# Altium schematic symbol library User.SchLib: 226 symbols (part 2 of 2)
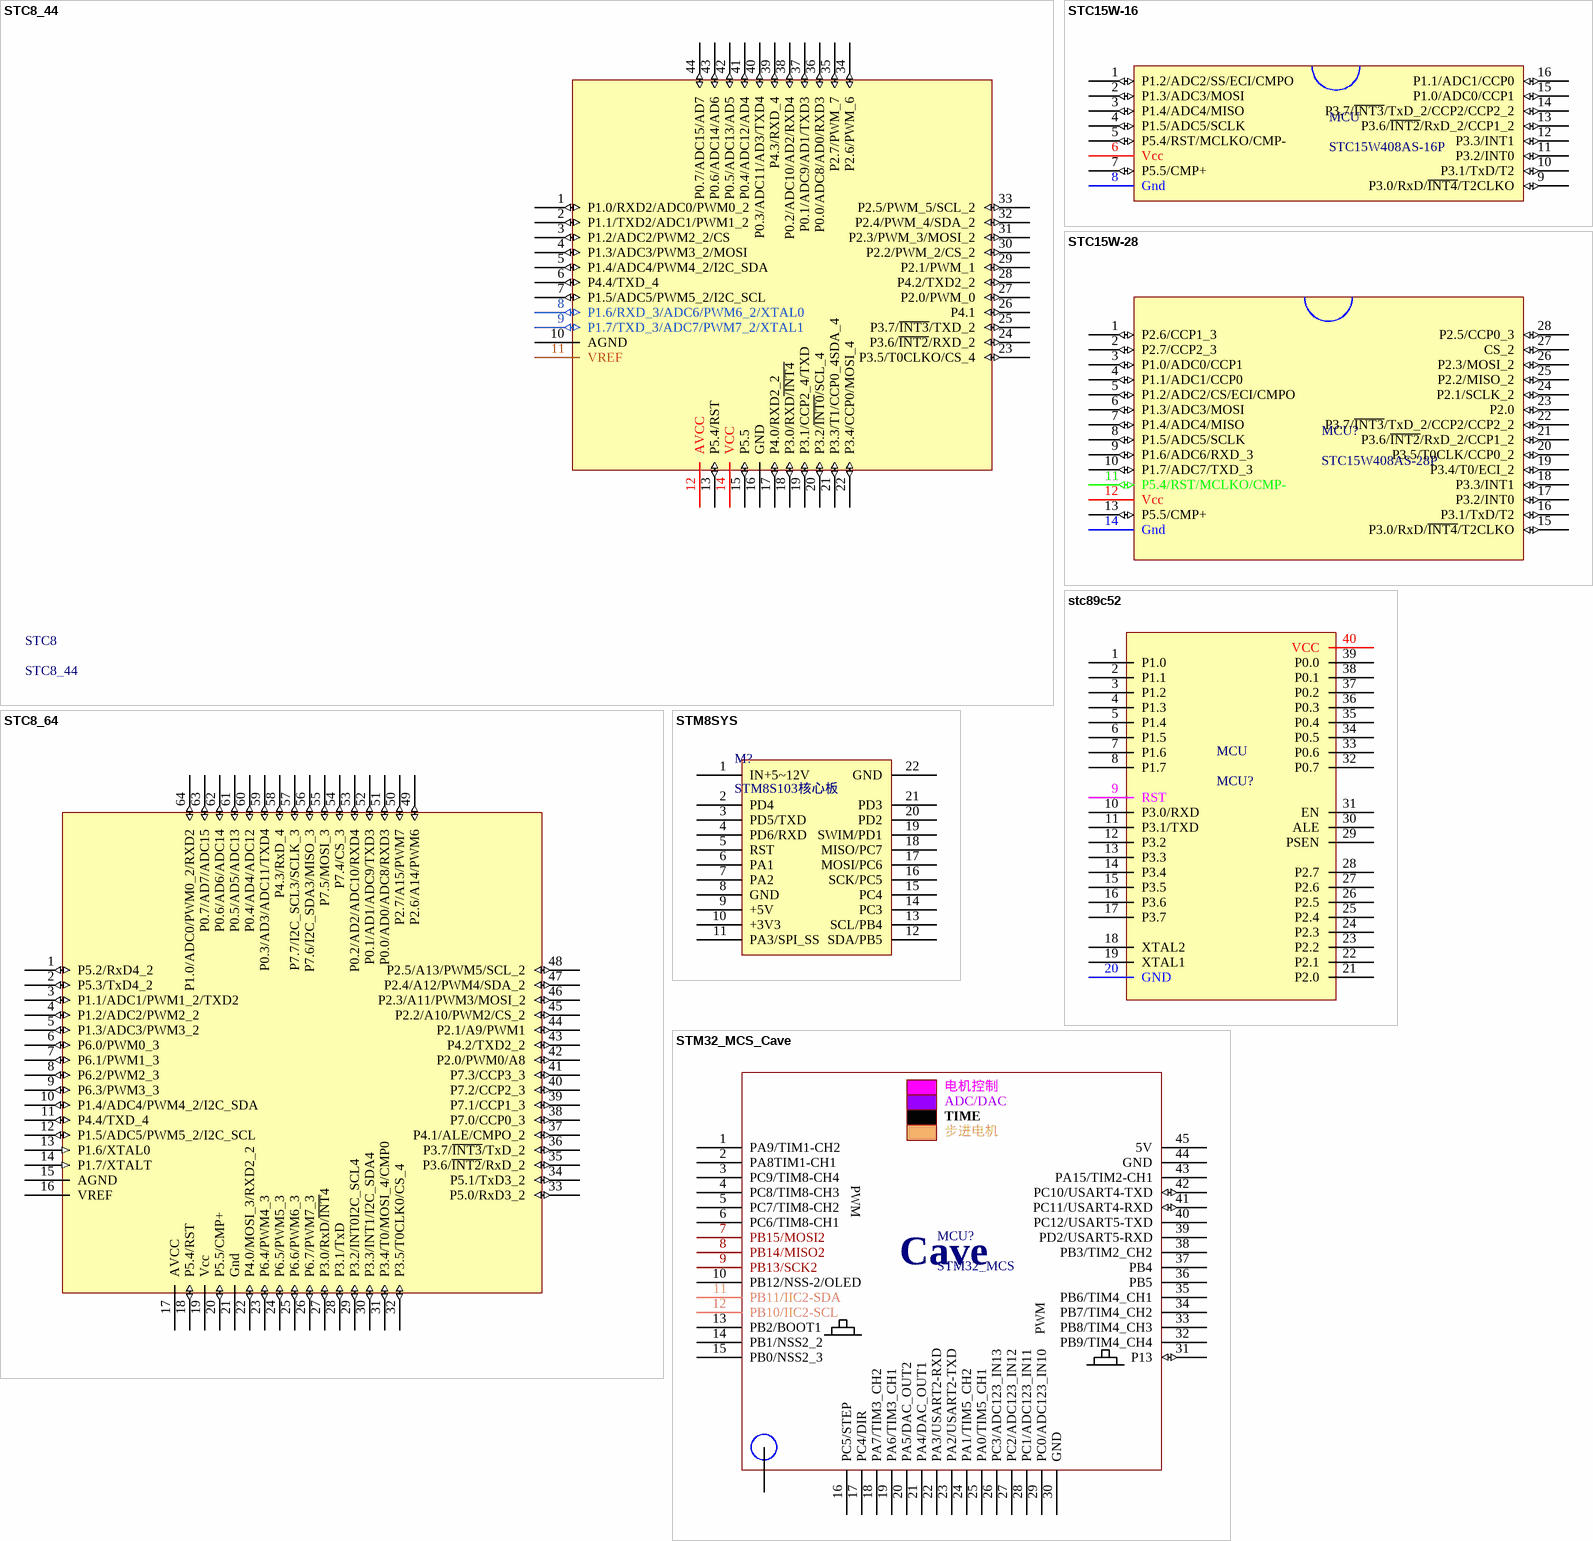
[diagram p10: symbols STC8_44 to STM32_MCS_Cave]

## stc89c52
designator MCU, comment MCU?
MCU
footprint DIP_40 (15.24)
pins: 1 P1.0, 2 P1.1, 3 P1.2, 4 P1.3, 5 P1.4, 6 P1.5, 7 P1.6, 8 P1.7, 9 RST, 10 P3.0/RXD, 11 P3.1/TXD, 12 P3.2, 13 P3.3, 14 P3.4, 15 P3.5, 16 P3.6, 17 P3.7, 18 XTAL2, 19 XTAL1, 20 GND, 21 P2.0, 22 P2.1, 23 P2.2, 24 P2.3, 25 P2.4, 26 P2.5, 27 P2.6, 28 P2.7, 29 PSEN, 30 ALE, 31 EN, 32 P0.7, 33 P0.6, 34 P0.5, 35 P0.4, 36 P0.3, 37 P0.2, 38 P0.1, 39 P0.0, 40 VCC

## STM8SYS
designator M?, comment STM8S103核心板
MODE; 版权归属: 源创客; BOM名称: STM8S103核心板; 学习资源: www.ooocke.com
footprint STM8S103SYS (STM8S103核心板)
pins: 1 IN+5~12V, 2 PD4, 3 PD5/TXD, 4 PD6/RXD, 5 RST, 6 PA1, 7 PA2, 8 GND, 9 +5V, 10 +3V3, 11 PA3/SPI_SS, 12 SDA/PB5, 13 SCL/PB4, 14 PC3, 15 PC4, 16 SCK/PC5, 17 MOSI/PC6, 18 MISO/PC7, 19 SWIM/PD1, 20 PD2, 21 PD3, 22 GND

## STM32_MCS_Cave
designator MCU?, comment STM32_MCS
MCU
footprint STM32_MCS (MCU)
pins: 0, 1 PA9/TIM1-CH2, 2 PA8TIM1-CH1, 3 PC9/TIM8-CH4, 4 PC8/TIM8-CH3, 5 PC7/TIM8-CH2, 6 PC6/TIM8-CH1, 7 PB15/MOSI2, 8 PB14/MISO2, 9 PB13/SCK2, 10 PB12/NSS-2/OLED, 11 PB11/IIC2-SDA, 12 PB10/IIC2-SCL, 13 PB2/BOOT1, 14 PB1/NSS2_2, 15 PB0/NSS2_3, 16 PC5/STEP, 17 PC4/DIR, 18 PA7/TIM3_CH2, 19 PA6/TIM3_CH1, 20 PA5/DAC_OUT2, 21 PA4/DAC_OUT1, 22 PA3/USART2-RXD, 23 PA2/USART2-TXD, 24 PA1/TIM5_CH2, 25 PA0/TIM5_CH1, 26 PC3/ADC123_IN13, 27 PC2/ADC123_IN12, 28 PC1/ADC123_IN11, 29 PC0/ADC123_IN10, 30 GND, 31 P13 (io), 32 PB9/TIM4_CH4, 33 PB8/TIM4_CH3, 34 PB7/TIM4_CH2, 35 PB6/TIM4_CH1, 36 PB5, 37 PB4, 38 PB3/TIM2_CH2, 39 PD2/USART5-RXD, 40 PC12/USART5-TXD, 41 PC11/USART4-RXD (io), 42 PC10/USART4-TXD (io), 43 PA15/TIM2-CH1, 44 GND, 45 5V
text: 电机控制; ADC/DAC; TIME; 步进电机; PWM; Cave

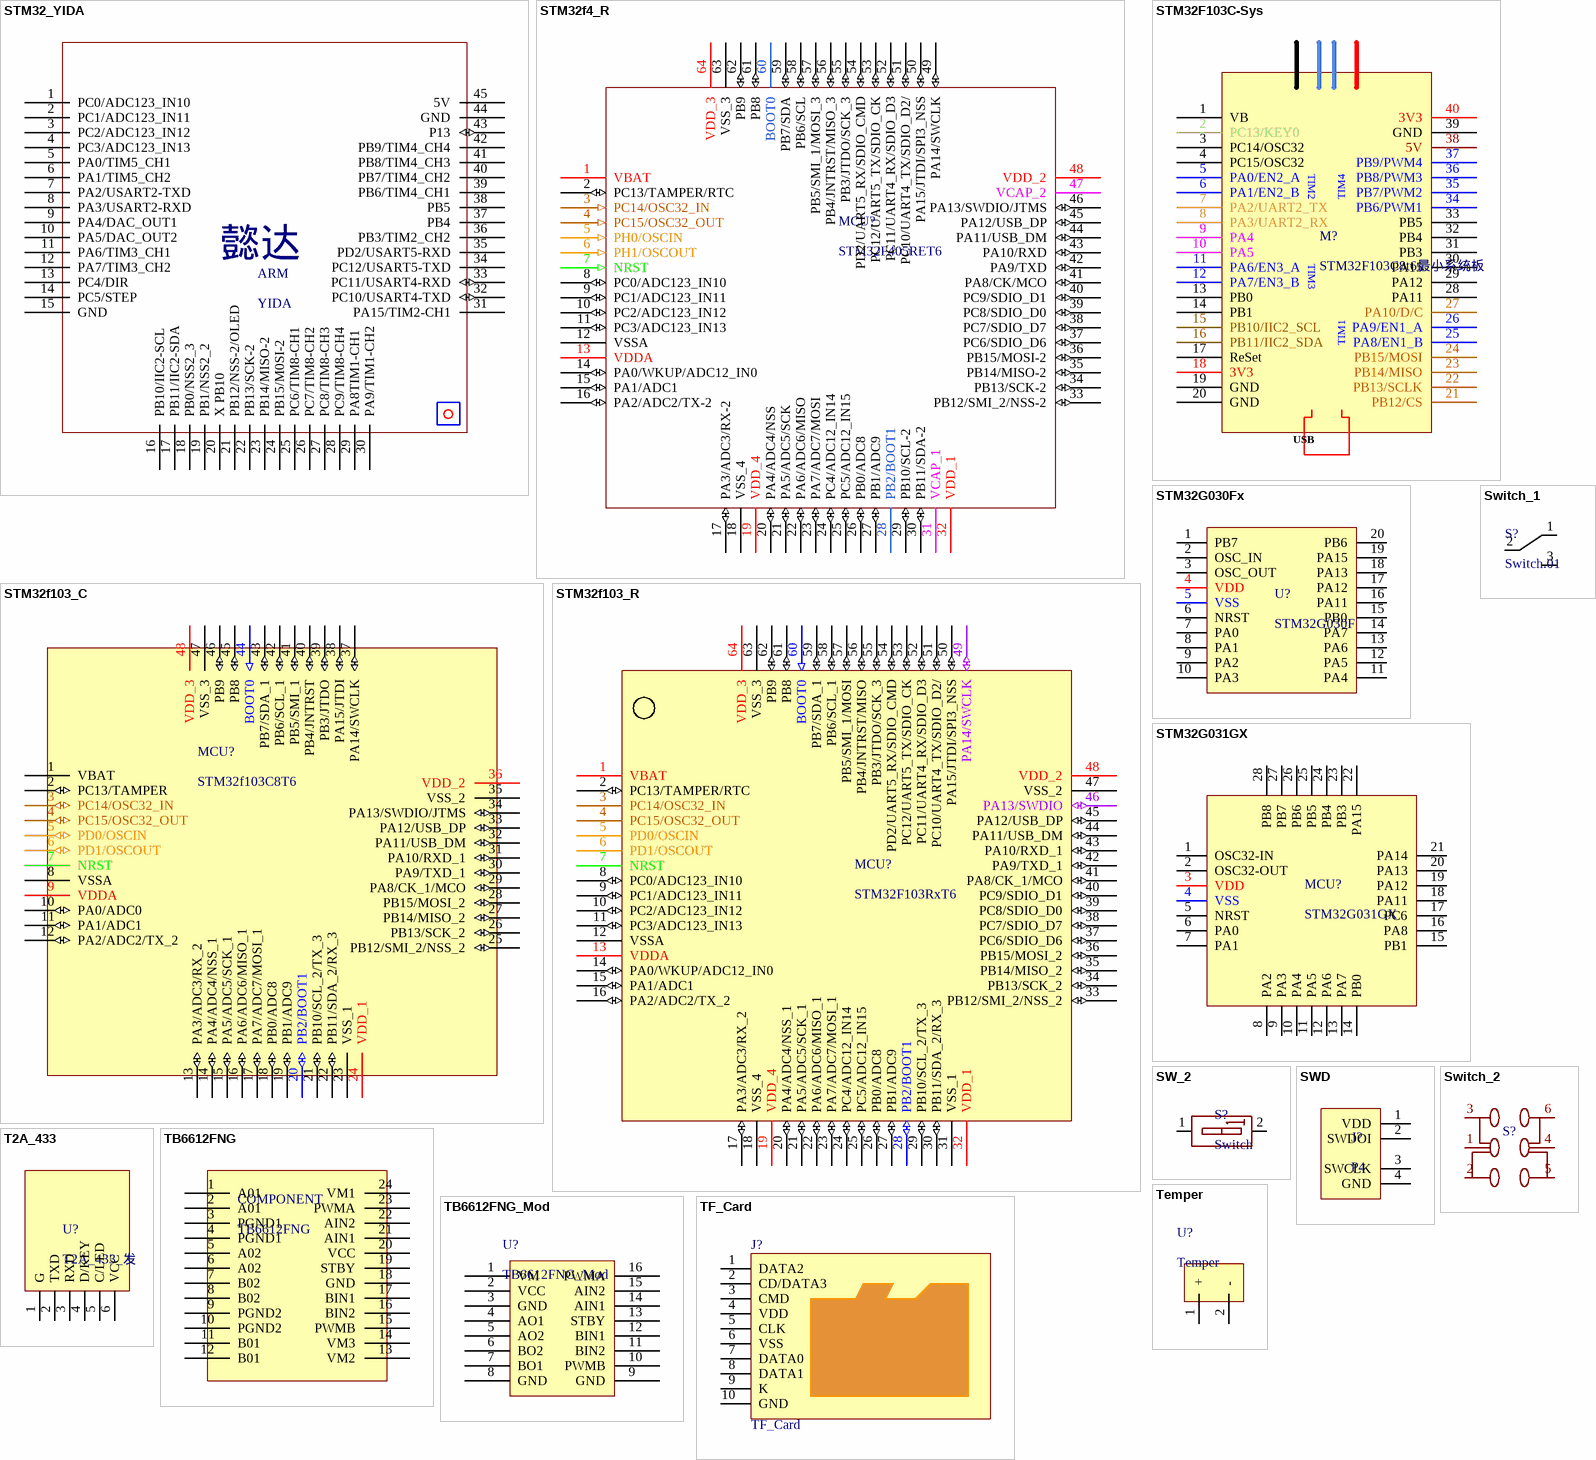
[diagram p7: symbols STM32_YIDA to TF_Card]

## STM32_YIDA
designator ARM, comment YIDA
MCU
footprint YIDA
pins: 1 PC0/ADC123_IN10, 2 PC1/ADC123_IN11, 3 PC2/ADC123_IN12, 4 PC3/ADC123_IN13, 5 PA0/TIM5_CH1, 6 PA1/TIM5_CH2, 7 PA2/USART2-TXD, 8 PA3/USART2-RXD, 9 PA4/DAC_OUT1, 10 PA5/DAC_OUT2, 11 PA6/TIM3_CH1, 12 PA7/TIM3_CH2, 13 PC4/DIR, 14 PC5/STEP, 15 GND, 16 PB10/IIC2-SCL, 17 PB11/IIC2-SDA, 18 PB0/NSS2_3, 19 PB1/NSS2_2, 20 X PB10, 21 PB12/NSS-2/OLED, 22 PB13/SCK-2, 23 PB14/MISO-2, 24 PB15/M0SI-2, 25 PC6/TIM8-CH1, 26 PC7/TIM8-CH2, 27 PC8/TIM8-CH3, 28 PC9/TIM8-CH4, 29 PA8TIM1-CH1, 30 PA9/TIM1-CH2, 31 PA15/TIM2-CH1, 32 PC10/USART4-TXD (io), 33 PC11/USART4-RXD (io), 34 PC12/USART5-TXD, 35 PD2/USART5-RXD, 36 PB3/TIM2_CH2, 37 PB4, 38 PB5, 39 PB6/TIM4_CH1, 40 PB7/TIM4_CH2, 41 PB8/TIM4_CH3, 42 PB9/TIM4_CH4, 43 P13 (io), 44 GND, 45 5V
text: 懿达

## STM32f4_R
designator MCU?, comment STM32F405RET6
MCU
footprint LQFP_64_10X10
pins: 1 VBAT (power), 2 PC13/TAMPER/RTC (io), 3 PC14/OSC32_IN (in), 4 PC15/OSC32_OUT (in), 5 PH0/OSCIN (in), 6 PH1/OSCOUT (in), 7 NRST (in), 8 PC0/ADC123_IN10 (io), 9 PC1/ADC123_IN11 (io), 10 PC2/ADC123_IN12 (io), 11 PC3/ADC123_IN13 (io), 12 VSSA (power), 13 VDDA (power), 14 PA0/WKUP/ADC12_IN0 (io), 15 PA1/ADC1 (io), 16 PA2/ADC2/TX-2 (io), 17 PA3/ADC3/RX-2 (io), 18 VSS_4 (power), 19 VDD_4 (power), 20 PA4/ADC4/NSS (io), 21 PA5/ADC5/SCK (io), 22 PA6/ADC6/MISO (io), 23 PA7/ADC7/MOSI (io), 24 PC4/ADC12_IN14 (io), 25 PC5/ADC12_IN15 (io), 26 PB0/ADC8 (io), 27 PB1/ADC9 (io), 28 PB2/BOOT1, 29 PB10/SCL-2 (io), 30 PB11/SDA-2 (io), 31 VCAP_1, 32 VDD_1 (power), 33 PB12/SMI_2/NSS-2 (io), 34 PB13/SCK-2 (io), 35 PB14/MISO-2 (io), 36 PB15/MOSI-2 (io), 37 PC6/SDIO_D6 (io), 38 PC7/SDIO_D7 (io), 39 PC8/SDIO_D0 (io), 40 PC9/SDIO_D1 (io), 41 PA8/CK/MCO (io), 42 PA9/TXD (io), 43 PA10/RXD (io), 44 PA11/USB_DM (io), 45 PA12/USB_DP (io), 46 PA13/SWDIO/JTMS (io), 47 VCAP_2, 48 VDD_2 (power), 49 PA14/SWCLK (io), 50 PA15/JTDI/SPI3_NSS (io), 51 PC10/UART4_TX/SDIO_D2/ (io), 52 PC11/UART4_RX/SDIO_D3 (io), 53 PC12/UART5_TX/SDIO_CK (io), 54 PD2/UART5_RX/SDIO_CMD (io), 55 PB3/JTDO/SCK_3 (io), 56 PB4/JNTRST/MISO_3 (io), 57 PB5/SMI_1/MOSI_3 (io), 58 PB6/SCL (io), 59 PB7/SDA (io), 60 BOOT0, 61 PB8 (io), 62 PB9 (io), 63 VSS_3 (power), 64 VDD_3 (power)

## STM32f103_C
designator MCU?, comment STM32f103C8T6
MCU
footprint LQFP_48_7X7
pins: 1 VBAT (power), 2 PC13/TAMPER (io), 3 PC14/OSC32_IN (io), 4 PC15/OSC32_OUT (io), 5 PD0/OSCIN (io), 6 PD1/OSCOUT (io), 7 NRST, 8 VSSA (power), 9 VDDA (power), 10 PA0/ADC0 (io), 11 PA1/ADC1 (io), 12 PA2/ADC2/TX_2 (io), 13 PA3/ADC3/RX_2 (io), 14 PA4/ADC4/NSS_1 (io), 15 PA5/ADC5/SCK_1 (io), 16 PA6/ADC6/MISO_1 (io), 17 PA7/ADC7/MOSI_1 (io), 18 PB0/ADC8 (io), 19 PB1/ADC9 (io), 20 PB2/BOOT1 (io), 21 PB10/SCL_2/TX_3 (io), 22 PB11/SDA_2/RX_3 (io), 23 VSS_1 (power), 24 VDD_1 (power), 25 PB12/SMI_2/NSS_2 (io), 26 PB13/SCK_2 (io), 27 PB14/MISO_2 (io), 28 PB15/MOSI_2 (io), 29 PA8/CK_1/MCO (io), 30 PA9/TXD_1 (io), 31 PA10/RXD_1 (io), 32 PA11/USB_DM (io), 33 PA12/USB_DP (io), 34 PA13/SWDIO/JTMS (io), 35 VSS_2 (power), 36 VDD_2 (power), 37 PA14/SWCLK (io), 38 PA15/JTDI (io), 39 PB3/JTDO (io), 40 PB4/JNTRST (io), 41 PB5/SMI_1 (io), 42 PB6/SCL_1 (io), 43 PB7/SDA_1 (io), 44 BOOT0 (in), 45 PB8 (io), 46 PB9 (io), 47 VSS_3 (power), 48 VDD_3 (power)

## STM32f103_R
designator MCU?, comment STM32F103RxT6
MCU
footprint LQFP_64_10X10
footprint LQFP64P-7
pins: 1 VBAT (power), 2 PC13/TAMPER/RTC (io), 3 PC14/OSC32_IN, 4 PC15/OSC32_OUT, 5 PD0/OSCIN, 6 PD1/OSCOUT, 7 NRST, 8 PC0/ADC123_IN10 (io), 9 PC1/ADC123_IN11 (io), 10 PC2/ADC123_IN12 (io), 11 PC3/ADC123_IN13 (io), 12 VSSA (power), 13 VDDA (power), 14 PA0/WKUP/ADC12_IN0 (io), 15 PA1/ADC1 (io), 16 PA2/ADC2/TX_2 (io), 17 PA3/ADC3/RX_2 (io), 18 VSS_4 (power), 19 VDD_4 (power), 20 PA4/ADC4/NSS_1 (io), 21 PA5/ADC5/SCK_1 (io), 22 PA6/ADC6/MISO_1 (io), 23 PA7/ADC7/MOSI_1 (io), 24 PC4/ADC12_IN14 (io), 25 PC5/ADC12_IN15 (io), 26 PB0/ADC8 (io), 27 PB1/ADC9 (io), 28 PB2/BOOT1 (io), 29 PB10/SCL_2/TX_3 (io), 30 PB11/SDA_2/RX_3 (io), 31 VSS_1 (power), 32 VDD_1 (power), 33 PB12/SMI_2/NSS_2 (io), 34 PB13/SCK_2 (io), 35 PB14/MISO_2 (io), 36 PB15/MOSI_2 (io), 37 PC6/SDIO_D6 (io), 38 PC7/SDIO_D7 (io), 39 PC8/SDIO_D0 (io), 40 PC9/SDIO_D1 (io), 41 PA8/CK_1/MCO (io), 42 PA9/TXD_1 (io), 43 PA10/RXD_1 (io), 44 PA11/USB_DM (io), 45 PA12/USB_DP (io), 46 PA13/SWDIO (io), 47 VSS_2 (power), 48 VDD_2 (power), 49 PA14/SWCLK (io), 50 PA15/JTDI/SPI3_NSS (io), 51 PC10/UART4_TX/SDIO_D2/ (io), 52 PC11/UART4_RX/SDIO_D3 (io), 53 PC12/UART5_TX/SDIO_CK (io), 54 PD2/UART5_RX/SDIO_CMD (io), 55 PB3/JTDO/SCK_3 (io), 56 PB4/JNTRST/MISO (io), 57 PB5/SMI_1/MOSI (io), 58 PB6/SCL_1 (io), 59 PB7/SDA_1 (io), 60 BOOT0 (in), 61 PB8 (io), 62 PB9 (io), 63 VSS_3 (power), 64 VDD_3 (power)

## STM32F103C-Sys
designator M?, comment STM32F103C8t6最小系统板
Mode STM32F103C8t6最小系统板
footprint STM32F103C8_Simple
pins: 1 VB, 2 PC13/KEY0, 3 PC14/OSC32, 4 PC15/OSC32, 5 PA0/EN2_A, 6 PA1/EN2_B, 7 PA2/UART2_TX, 8 PA3/UART2_RX, 9 PA4, 10 PA5, 11 PA6/EN3_A, 12 PA7/EN3_B, 13 PB0, 14 PB1, 15 PB10/IIC2_SCL, 16 PB11/IIC2_SDA, 17 ReSet, 18 3V3, 19 GND, 20 GND, 21 PB12/CS, 22 PB13/SCLK, 23 PB14/MISO, 24 PB15/MOSI, 25 PA8/EN1_B, 26 PA9/EN1_A, 27 PA10/D/C, 28 PA11, 29 PA12, 30 PA15, 31 PB3, 32 PB4, 33 PB5, 34 PB6/PWM1, 35 PB7/PWM2, 36 PB8/PWM3, 37 PB9/PWM4, 38 5V, 39 GND, 40 3V3
text: TIM2; TIM4; TIM3; TIM1; USB

## STM32G030Fx
designator U?, comment STM32G030F
STM32G030F/STM32F030F
footprint SSOP_20_0.635
pins: 1 PB7, 2 OSC_IN, 3 OSC_OUT, 4 VDD, 5 VSS, 6 NRST, 7 PA0, 8 PA1, 9 PA2, 10 PA3, 11 PA4, 12 PA5, 13 PA6, 14 PA7, 15 PB0, 16 PA11, 17 PA12, 18 PA13, 19 PA15, 20 PB6

## STM32G031GX
designator MCU?
MCU
footprint QFN28 5x5_L (28脚，长x宽x高：5x5x0.8mm，脚距：0.5mm)
pins: 1 OSC32-IN, 2 OSC32-OUT, 3 VDD, 4 VSS, 5 NRST, 6 PA0, 7 PA1, 8 PA2, 9 PA3, 10 PA4, 11 PA5, 12 PA6, 13 PA7, 14 PB0, 15 PB1, 16 PA8, 17 PC6, 18 PA11, 19 PA12, 20 PA13, 21 PA14, 22 PA15, 23 PB3, 24 PB4, 25 PB5, 26 PB6, 27 PB7, 28 PB8

## SW_2
designator S?, comment Switch
footprint SW_SMD_2.54*1
pins: 1 A1, 2 A2

## SWD
designator J?, comment P4
Header
footprint XH2.54-WS-4P (长：15mm，宽：8mm，高：6.1mm)
footprint XH2.54-WI-4P (接插件，4P)
pins: 1 VDD, 2 SWDOI, 3 SWCLK, 4 GND

## Switch_1
designator S?, comment Switch.01
Switch
footprint Switch_1
footprint SW-TO3
footprint Switch_1_big
footprint SWITCH_KCD11
footprint SW_SK12D07
pins: 1, 2, 3

## Switch_2
designator S?, comment Switch.02  (value not drawn)
Switch
footprint SWITCH_2_1
footprint SWITCH_2_2
footprint SWITCH_KCD1
footprint SWITCH-KFC-6 (自锁开关，规格：6*6*12.5mm)
footprint SWITCH-KFC-7 (自锁开关，规格：7*7mm)
footprint SWITCH_2_1-Tie
pins: 1, 2, 3, 4, 5, 6

## T2A_433
designator U?, comment T2A_433_发
footprint T2A
pins: 1 G, 2 TXD, 3 RXD, 4 D/KEY, 5 C/LED, 6 VCC

## TB6612FNG
designator COMPONENT
Motor drive
footprint SSOP_24 (0.65)
pins: 1 A01, 2 A01, 3 PGND1, 4 PGND1, 5 A02, 6 A02, 7 B02, 8 B02, 9 PGND2, 10 PGND2, 11 B01, 12 B01, 13 VM2, 14 VM3, 15 PWMB, 16 BIN2, 17 BIN1, 18 GND, 19 STBY, 20 VCC, 21 AIN1, 22 AIN2, 23 PWMA, 24 VM1

## TB6612FNG_Mod
designator U?
MODE
footprint TB6612FNG (MODE)
pins: 1 VM, 2 VCC, 3 GND, 4 AO1, 5 AO2, 6 BO2, 7 BO1, 8 GND, 9 GND, 10 PWMB, 11 BIN2, 12 BIN1, 13 STBY, 14 AIN1, 15 AIN2, 16 PWMA

## Temper
designator U?
Mode
footprint C0804
footprint RESC_0603_1
pins: 1 +, 2 -

## TF_Card
designator J?
TF卡座
footprint SD_MINI
footprint TF_short
footprint TF_Card
pins: 1 DATA2, 2 CD/DATA3, 3 CMD, 4 VDD, 5 CLK, 6 VSS, 7 DATA0, 8 DATA1, 9 K, 10 GND

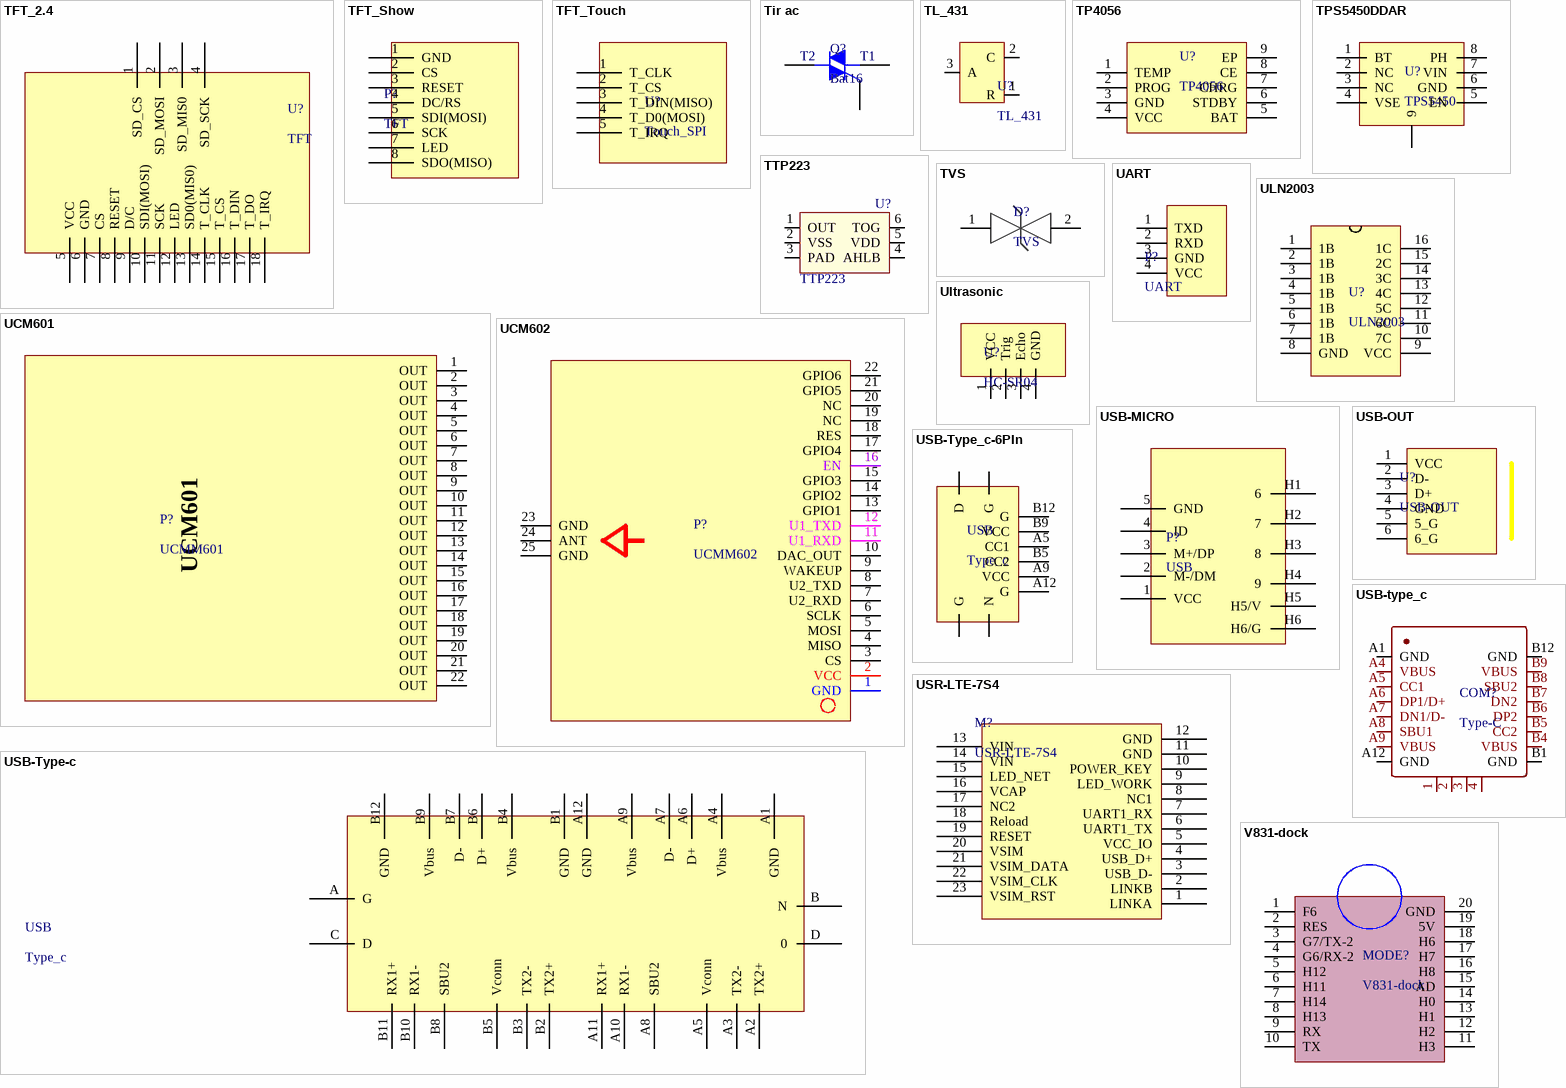
[diagram p8: symbols TFT_2.4 to V831-dock]

## TFT_2.4
designator U?, comment TFT
SHOW
footprint TFT (SPI_4+14)
pins: 1 SD_CS, 2 SD_MOSI, 3 SD_MIS0, 4 SD_SCK, 5 VCC, 6 GND, 7 CS, 8 RESET, 9 D/C, 10 SDI(MOSI), 11 SCK, 12 LED, 13 SD0(MIS0), 14 T_CLK, 15 T_CS, 16 T_DIN, 17 T_DO, 18 T_IRQ

## TFT_Show
designator P?, comment TFT
Show
footprint XH_1.25_8P
pins: 1 GND, 2 CS, 3 RESET, 4 DC/RS, 5 SDI(MOSI), 6 SCK, 7 LED, 8 SDO(MISO)

## TFT_Touch
designator U?, comment Touch_SPI
Show
footprint XH_1.25_5P
pins: 1 T_CLK, 2 T_CS, 3 T_DIN(MISO), 4 T_D0(MOSI), 5 T_IRQ

## Tir ac
designator Q?, comment Bat16
SCR
footprint TO220-3-L
pins: 1 M1, 2 M2, 3 G
text: T2; T1

## TL_431
designator U?
DC-DC    基准源
footprint SOT23_3
pins: 1 R, 2 C, 3 A

## TP4056
designator U?
IC
footprint SOP8E_M (5.6*1.8mm（长宽高）)
pins: 1 TEMP, 2 PROG, 3 GND, 4 VCC, 5 BAT, 6 STDBY, 7 CHRG, 8 CE, 9 EP

## TPS5450DDAR
designator U?, comment TPS5450
DC-DC
footprint SOIC_8E (58mm)
pins: 1 BT, 2 NC, 3 NC, 4 VSE, 5 EN, 6 GND, 7 VIN, 8 PH, 9

## TTP223
designator U?
TOUCH
footprint SOT-23-6
pins: 1 OUT, 2 VSS, 3 PAD, 4 AHLB, 5 VDD, 6 TOG

## TVS
designator D?
diode
footprint SOD-323 (40V-1A)
footprint SMB_TVS
pins: 1, 2

## UART
designator P?
Header
footprint UART (-XH2.54-4PIN)
footprint UART_PIN
footprint UART-Slave
footprint XH2.54-WS-4P (长：15mm，宽：8mm，高：6.1mm)
pins: 1 TXD, 2 RXD, 3 GND, 4 VCC

## UCM601
designator P?, comment UCMM601
RFID
footprint UCM601 (68.5*47)
pins: 1 OUT, 2 OUT, 3 OUT, 4 OUT, 5 OUT, 6 OUT, 7 OUT, 8 OUT, 9 OUT, 10 OUT, 11 OUT, 12 OUT, 13 OUT, 14 OUT, 15 OUT, 16 OUT, 17 OUT, 18 OUT, 19 OUT, 20 OUT, 21 OUT, 22 OUT

## UCM602
designator P?, comment UCMM602
RFID_MODE
footprint UCM602
pins: 1 GND, 2 VCC, 3 CS, 4 MISO, 5 MOSI, 6 SCLK, 7 U2_RXD, 8 U2_TXD, 9 WAKEUP, 10 DAC_OUT, 11 U1_RXD, 12 U1_TXD, 13 GPIO1, 14 GPIO2, 15 GPIO3, 16 EN, 17 GPIO4, 18 RES, 19 NC, 20 NC, 21 GPIO5, 22 GPIO6, 23 GND, 24 ANT, 25 GND

## ULN2003
designator U?
IC
footprint SOP16 (SOP, 16-Leads, Body 9.90x3.90mm, Pitch 1.27mm, IPC Medium Density)
pins: 1 1B, 2 1B, 3 1B, 4 1B, 5 1B, 6 1B, 7 1B, 8 GND, 9 VCC, 10 7C, 11 6C, 12 5C, 13 4C, 14 3C, 15 2C, 16 1C

## Ultrasonic
designator U?, comment HC-SR04
Mode
footprint Ultrasonic
footprint XH2.54-WI-4P (接插件，4P)
pins: 1 VCC, 2 Trig, 3 Echo, 4 GND

## USB-MICRO
designator P?, comment USB
footprint USB_B
footprint USB_Micro (USB)
footprint USB-micro_C (USB)
footprint USB-MICRO-D (USB)
pins: 1 VCC (power), 2 M-/DM, 3 M+/DP, 4 ID, 5 GND (power), H1 6, H2 7, H3 8, H4 9, H5 H5/V (power), H6 H6/G (power)

## USB-OUT
designator U?
USB
footprint USB_BA
footprint USB_Bout
footprint USB_OUT-B
footprint USB_OUT-C
footprint USB_OUT-C*2
footprint USB-A/F-S
footprint USB-A/F-2O
pins: 1 VCC, 2 D-, 3 D+, 4 GND, 5 5_G, 6 6_G

## USB-Type-c
designator USB, comment Type_c
USB
footprint USB-Type-c_6P
footprint USB-Type-C_24P (USB)
footprint USB-TYPE_C_16P (USB)
footprint USB-Type-C_16A
pins: A G, A1 GND, A2 TX2+, A3 TX2-, A4 Vbus, A5 Vconn, A6 D+, A7 D-, A8 SBU2, A9 Vbus, A10 RX1-, A11 RX1+, A12 GND, B N, B1 GND, B2 TX2+, B3 TX2-, B4 Vbus, B5 Vconn, B6 D+, B7 D-, B8 SBU2, B9 Vbus, B10 RX1-, B11 RX1+, B12 GND, C D, D 0

## USB-type_c
designator COM?, comment Type-C
USB
footprint USB-Type-C_16A
footprint USB-TYPE_C_16P (USB)
footprint USB-tYPE_C_C
footprint USB-Type-C_16-S
pins: 1, 2, 3, 4, A1 GND, A4 VBUS, A5 CC1, A6 DP1/D+, A7 DN1/D-, A8 SBU1, A9 VBUS, A12 GND, B1 GND, B4 VBUS, B5 CC2, B6 DP2, B7 DN2, B8 SBU2, B9 VBUS, B12 GND

## USB-Type_c-6PIn
designator USB, comment Type_c
USB
footprint USB-Type-c_6P
pins: A G, A5 CC1, A9 VCC, A12 G, B N, B5 CC2, B9 VCC, B12 G, C D, D G

## USR-LTE-7S4
designator M?
MODE 全网通4G DTU透传模块; 版权归属: 源创客; BOM名称: 全网通4G DTU透传模块; 学习资源: www.ooocke.com
footprint USR-LTE-7S4
pins: 1 LINKA, 2 LINKB, 3 USB_D-, 4 USB_D+, 5 VCC_IO, 6 UART1_TX, 7 UART1_RX, 8 NC1, 9 LED_WORK, 10 POWER_KEY, 11 GND, 12 GND, 13 VIN, 14 VIN, 15 LED_NET, 16 VCAP, 17 NC2, 18 Reload, 19 RESET, 20 VSIM, 21 VSIM_DATA, 22 VSIM_CLK, 23 VSIM_RST

## V831-dock
designator MODE?
MODE
footprint Maix2_Dock
pins: 1 F6, 2 RES, 3 G7/TX-2, 4 G6/RX-2, 5 H12, 6 H11, 7 H14, 8 H13, 9 RX, 10 TX, 11 H3, 12 H2, 13 H1, 14 H0, 15 AD, 16 H8, 17 H7, 18 H6, 19 5V, 20 GND

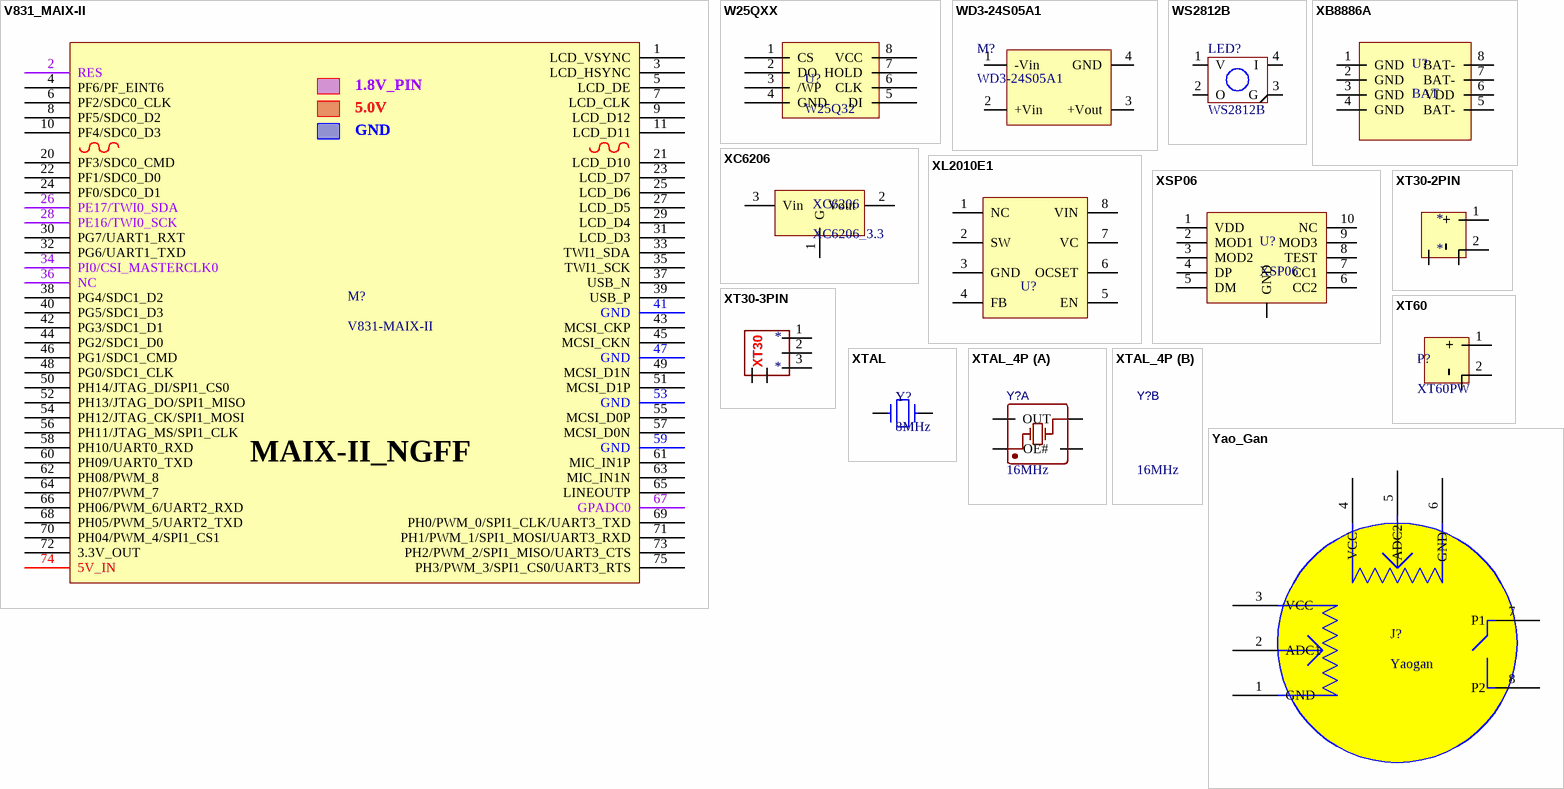
[diagram p9: symbols V831_MAIX-II to Yao_Gan]

## V831_MAIX-II
designator M?, comment V831-MAIX-II
Sipeed-v831-M2dock
footprint V831_NAIX-II (核心板)
pins: 1 LCD_VSYNC, 2 RES, 3 LCD_HSYNC, 4 PF6/PF_EINT6, 5 LCD_DE, 6 PF2/SDC0_CLK, 7 LCD_CLK, 8 PF5/SDC0_D2, 9 LCD_D12, 10 PF4/SDC0_D3, 11 LCD_D11, 20 PF3/SDC0_CMD, 21 LCD_D10, 22 PF1/SDC0_D0, 23 LCD_D7, 24 PF0/SDC0_D1, 25 LCD_D6, 26 PE17/TWI0_SDA, 27 LCD_D5, 28 PE16/TWI0_SCK, 29 LCD_D4, 30 PG7/UART1_RXT, 31 LCD_D3, 32 PG6/UART1_TXD, 33 TWI1_SDA, 34 PI0/CSI_MASTERCLK0, 35 TWI1_SCK, 36 NC, 37 USB_N, 38 PG4/SDC1_D2, 39 USB_P, 40 PG5/SDC1_D3, 41 GND, 42 PG3/SDC1_D1, 43 MCSI_CKP, 44 PG2/SDC1_D0, 45 MCSI_CKN, 46 PG1/SDC1_CMD, 47 GND, 48 PG0/SDC1_CLK, 49 MCSI_D1N, 50 PH14/JTAG_DI/SPI1_CS0, 51 MCSI_D1P, 52 PH13/JTAG_DO/SPI1_MISO, 53 GND, 54 PH12/JTAG_CK/SPI1_MOSI, 55 MCSI_D0P, 56 PH11/JTAG_MS/SPI1_CLK, 57 MCSI_D0N, 58 PH10/UART0_RXD, 59 GND, 60 PH09/UART0_TXD, 61 MIC_IN1P, 62 PH08/PWM_8, 63 MIC_IN1N, 64 PH07/PWM_7, 65 LINEOUTP, 66 PH06/PWM_6/UART2_RXD, 67 GPADC0, 68 PH05/PWM_5/UART2_TXD, 69 PH0/PWM_0/SPI1_CLK/UART3_TXD, 70 PH04/PWM_4/SPI1_CS1, 71 PH1/PWM_1/SPI1_MOSI/UART3_RXD, 72 3.3V_OUT, 73 PH2/PWM_2/SPI1_MISO/UART3_CTS, 74 5V_IN, 75 PH3/PWM_3/SPI1_CS0/UART3_RTS
text: 1.8V_PIN; 5.0V; MAIX-II_NGFF

## W25QXX
designator U?, comment W25Q32
Flash
footprint SOIC_8
pins: 1 CS, 2 DO, 3 /WP, 4 GND, 5 DI, 6 CLK, 7 HOLD, 8 VCC

## WD3-24S05A1
designator M?
DC-DC; BOM名称: 24V转5V模块; 版权归属: 源创客; 学习资源: www.ooocke.com
footprint WD-24S05A1 (3W-24V转5V模块)
pins: 1 -Vin, 2 +Vin, 3 +Vout, 4 GND

## WS2812B
designator LED?
LED
footprint WS2812B (5050)
pins: 1 V, 2 O, 3 G, 4 I

## XB8886A
designator U?, comment BAT
footprint SOP_8
pins: 1 GND, 2 GND, 3 GND, 4 GND, 5 BAT-, 6 VDD, 7 BAT-, 8 BAT-

## XC6206
designator XC6206, comment XC6206_3.3
DC-DC
footprint SOT23_3
pins: 1 G, 2 Vout, 3 Vin

## XL2010E1
designator *, comment U?
pins: 1 NC, 2 SW, 3 GND, 4 FB, 5 EN, 6 OCSET, 7 VC, 8 VIN

## XSP06
designator U?
footprint ESSOP_10
pins: 1 VDD, 2 MOD1, 3 MOD2, 4 DP, 5 DM, 6 CC2, 7 CC1, 8 TEST, 9 MOD3, 10 NC, 11 GND

## XT30-2PIN
designator *
footprint XT30-2Pin
pins: 1 +, 2 -, 3 -, 4 -

## XT30-3PIN
designator *
footprint XT30-3Pin (3.5mm)
pins: 1, 2, 3, 4 -, 5 -
text: XT30

## XT60
designator P?, comment XT60PW
Interface
footprint XT-60
footprint XT60-PW-M20 (长：18.8mm， 宽：16mm，高：8.6mm)
footprint XT-60PW-F20
pins: 0 -, 1 +, 2 -

## XTAL
designator Y?, comment 8MHz
CRYSTAL
footprint XTAL-32
footprint XTAL_SMD_3215
footprint XTAL_3225
footprint XTAL_SMD_49S
footprint XTAL_49S
footprint XTAL-SMD5032-2P
pins: 1, 2

## XTAL_4P
designator Y?, comment 16MHz
Crystal Oscillator; Value: 16MHz
footprint XTAL_SMD_3225
footprint XTAL_SMD_5032
footprint XTAL_SMD_7050
part A pins: 1 OE#, 2 GND, 3 OUT, 4 GND

## Yao_Gan
designator J?, comment Yaogan
Mode
footprint Y.Gan
pins: 1 GND, 2 ADC1, 3 VCC, 4 VCC, 5 ADC2, 6 GND, 7 P1, 8 P2